# Altium integrated library ISSI SRAM Asynchronous SRAM Lower Power.IntLib: 204 symbols (part 2 of 9)
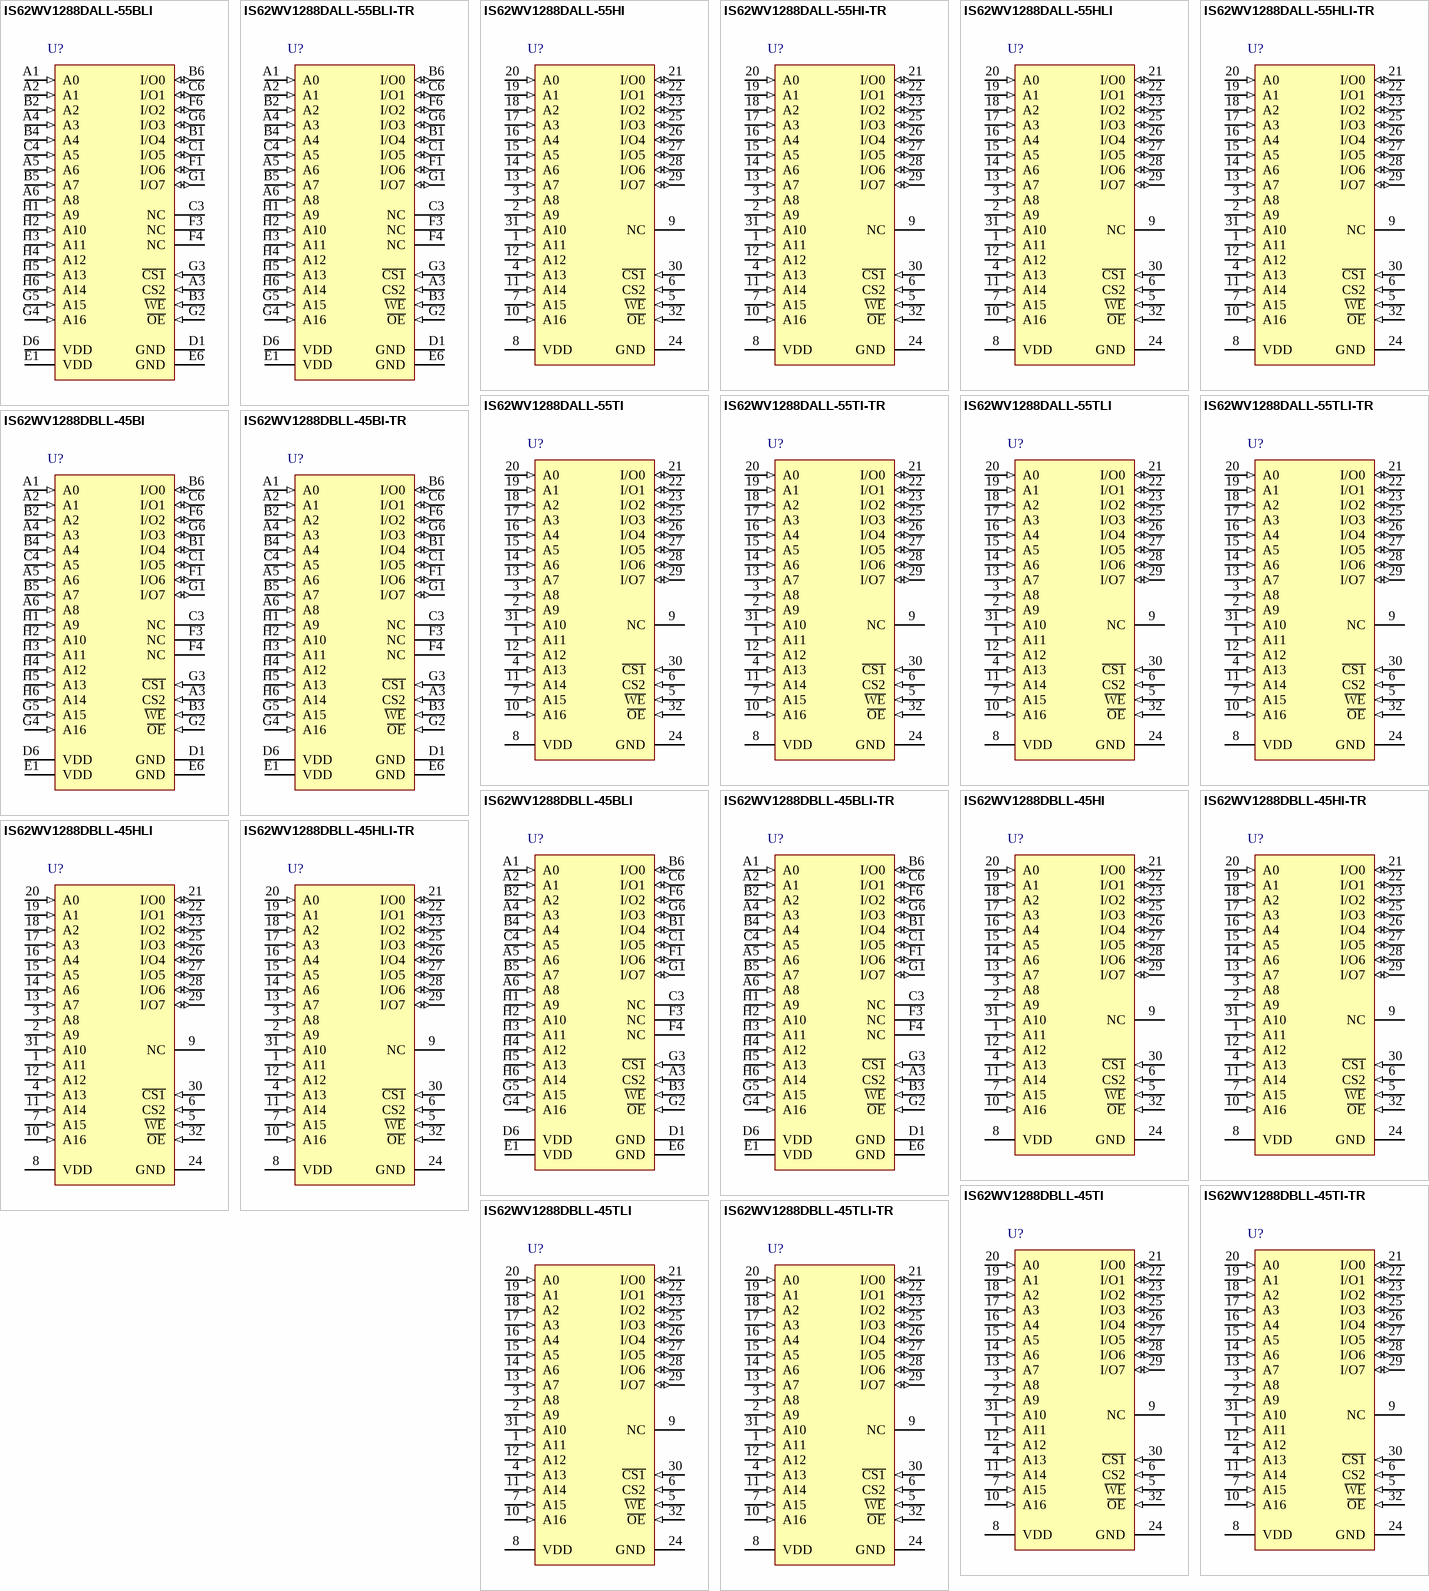
[diagram p12: symbols IS62WV1288DALL-55BLI to IS62WV1288DBLL-45TLI-TR]

## IS62WV1288DALL-55HI-TR
designator U?
1 M Low Voltage, Ultra Low Power CMOS SRAM, 128 K x 8, -40 to 85 degC, 32-Pin SOP (TSOP-1-32); Manufacturer: Integrated Silicon Solution Inc (ISSI); PartNumber: IS62WV1288DALL-55HI-TR; Density: 1M; Organization: 128K x 8; Packing: Tape & Reel; Speed (ns): 55; DatasheetVersion: Rev. B; PackageVersion: Rev. E, 06/2006; PackageReference: TSOP-1-32; PackageDescription: 32-Pin TSOP-1, Body 8 x 20 mm, Pitch 0.50 mm; Mounting Technology: Surface Mount; ComponentLink1Description: Manufacturer URL; ComponentLink1URL: http://www.issi.com/US/index.shtml; ComponentLink2Description: Datasheet; ComponentLink2URL: http://www.issi.com/WW/pdf/62-65WV1288DALL-BLL.pdf; ComponentLink3Description: Package Specification; ComponentLink3URL: http://www.issi.com/WW/pdf/61-64C1024AL.pdf
footprint ISSI-TSOP-1-32-8000x20000DE_N (SOP, 32-Leads, Body 18.5x8.2mm, Pitch 0.5mm, IPC Medium Density)
pins: 1 A11 (in) "Address Input", 2 A9 (in) "Address Input", 3 A8 (in) "Address Input", 4 A13 (in) "Address Input", 5 ~{WE} (in) "Write Enable Input", 6 CS2 (in) "Chip Enable 2 Input", 7 A15 (in) "Address Input", 8 VDD (power) "Power", 9 NC "No Connection", 10 A16 (in) "Address Input", 11 A14 (in) "Address Input", 12 A12 (in) "Address Input", 13 A7 (in) "Address Input", 14 A6 (in) "Address Input", 15 A5 (in) "Address Input", 16 A4 (in) "Address Input", 17 A3 (in) "Address Input", 18 A2 (in) "Address Input", 19 A1 (in) "Address Input", 20 A0 (in) "Address Input", 21 I/O0 (io) "Input/Output", 22 I/O1 (io) "Input/Output", 23 I/O2 (io) "Input/Output", 24 GND (power) "Ground", 25 I/O3 (io) "Input/Output", 26 I/O4 (io) "Input/Output", 27 I/O5 (io) "Input/Output", 28 I/O6 (io) "Input/Output", 29 I/O7 (io) "Input/Output", 30 ~{CS1} (in) "Chip Enable 1 Input", 31 A10 (in) "Address Input", 32 ~{OE} (in) "Output Enable Input"

## IS62WV1288DALL-55HLI
designator U?
1 M Low Voltage, Ultra Low Power CMOS SRAM, 128 K x 8, -40 to 85 degC, 32-Pin SOP (TSOP-1-32), Pb-Free; Manufacturer: Integrated Silicon Solution Inc (ISSI); PartNumber: IS62WV1288DALL-55HLI; Density: 1M; Organization: 128K x 8; Packing: Tray / Tube; Speed (ns): 55; DatasheetVersion: Rev. B; PackageVersion: Rev. E, 06/2006; PackageReference: TSOP-1-32; PackageDescription: 32-Pin TSOP-1, Body 8 x 20 mm, Pitch 0.50 mm; RoHS: Pb-Free; Mounting Technology: Surface Mount; ComponentLink1Description: Manufacturer URL; ComponentLink1URL: http://www.issi.com/US/index.shtml; ComponentLink2Description: Datasheet; ComponentLink2URL: http://www.issi.com/WW/pdf/62-65WV1288DALL-BLL.pdf; ComponentLink3Description: Package Specification; ComponentLink3URL: http://www.issi.com/WW/pdf/61-64C1024AL.pdf
footprint ISSI-TSOP-1-32-8000x20000DE_N (SOP, 32-Leads, Body 18.5x8.2mm, Pitch 0.5mm, IPC Medium Density)
pins: 1 A11 (in) "Address Input", 2 A9 (in) "Address Input", 3 A8 (in) "Address Input", 4 A13 (in) "Address Input", 5 ~{WE} (in) "Write Enable Input", 6 CS2 (in) "Chip Enable 2 Input", 7 A15 (in) "Address Input", 8 VDD (power) "Power", 9 NC "No Connection", 10 A16 (in) "Address Input", 11 A14 (in) "Address Input", 12 A12 (in) "Address Input", 13 A7 (in) "Address Input", 14 A6 (in) "Address Input", 15 A5 (in) "Address Input", 16 A4 (in) "Address Input", 17 A3 (in) "Address Input", 18 A2 (in) "Address Input", 19 A1 (in) "Address Input", 20 A0 (in) "Address Input", 21 I/O0 (io) "Input/Output", 22 I/O1 (io) "Input/Output", 23 I/O2 (io) "Input/Output", 24 GND (power) "Ground", 25 I/O3 (io) "Input/Output", 26 I/O4 (io) "Input/Output", 27 I/O5 (io) "Input/Output", 28 I/O6 (io) "Input/Output", 29 I/O7 (io) "Input/Output", 30 ~{CS1} (in) "Chip Enable 1 Input", 31 A10 (in) "Address Input", 32 ~{OE} (in) "Output Enable Input"

## IS62WV1288DALL-55HLI-TR
designator U?
1 M Low Voltage, Ultra Low Power CMOS SRAM, 128 K x 8, -40 to 85 degC, 32-Pin SOP (TSOP-1-32), Pb-Free; Manufacturer: Integrated Silicon Solution Inc (ISSI); PartNumber: IS62WV1288DALL-55HLI-TR; Density: 1M; Organization: 128K x 8; Packing: Tape & Reel; Speed (ns): 55; DatasheetVersion: Rev. B; PackageVersion: Rev. E, 06/2006; PackageReference: TSOP-1-32; PackageDescription: 32-Pin TSOP-1, Body 8 x 20 mm, Pitch 0.50 mm; RoHS: Pb-Free; Mounting Technology: Surface Mount; ComponentLink1Description: Manufacturer URL; ComponentLink1URL: http://www.issi.com/US/index.shtml; ComponentLink2Description: Datasheet; ComponentLink2URL: http://www.issi.com/WW/pdf/62-65WV1288DALL-BLL.pdf; ComponentLink3Description: Package Specification; ComponentLink3URL: http://www.issi.com/WW/pdf/61-64C1024AL.pdf
footprint ISSI-TSOP-1-32-8000x20000DE_N (SOP, 32-Leads, Body 18.5x8.2mm, Pitch 0.5mm, IPC Medium Density)
pins: 1 A11 (in) "Address Input", 2 A9 (in) "Address Input", 3 A8 (in) "Address Input", 4 A13 (in) "Address Input", 5 ~{WE} (in) "Write Enable Input", 6 CS2 (in) "Chip Enable 2 Input", 7 A15 (in) "Address Input", 8 VDD (power) "Power", 9 NC "No Connection", 10 A16 (in) "Address Input", 11 A14 (in) "Address Input", 12 A12 (in) "Address Input", 13 A7 (in) "Address Input", 14 A6 (in) "Address Input", 15 A5 (in) "Address Input", 16 A4 (in) "Address Input", 17 A3 (in) "Address Input", 18 A2 (in) "Address Input", 19 A1 (in) "Address Input", 20 A0 (in) "Address Input", 21 I/O0 (io) "Input/Output", 22 I/O1 (io) "Input/Output", 23 I/O2 (io) "Input/Output", 24 GND (power) "Ground", 25 I/O3 (io) "Input/Output", 26 I/O4 (io) "Input/Output", 27 I/O5 (io) "Input/Output", 28 I/O6 (io) "Input/Output", 29 I/O7 (io) "Input/Output", 30 ~{CS1} (in) "Chip Enable 1 Input", 31 A10 (in) "Address Input", 32 ~{OE} (in) "Output Enable Input"

## IS62WV1288DALL-55TI
designator U?
1 M Low Voltage, Ultra Low Power CMOS SRAM, 128 K x 8, -40 to 85 degC, 32-Pin SOP (TSOP-1-32); Manufacturer: Integrated Silicon Solution Inc (ISSI); PartNumber: IS62WV1288DALL-55TI; Density: 1M; Organization: 128K x 8; Packing: Tray / Tube; Speed (ns): 55; DatasheetVersion: Rev. B; PackageVersion: Rev. B, 04/2003; PackageReference: TSOP-1-32; PackageDescription: 32-Pin 8.00 x 13.4 mm TSOP-1, Pitch 0.5 mm; Mounting Technology: Surface Mount; ComponentLink1Description: Manufacturer URL; ComponentLink1URL: http://www.issi.com/US/index.shtml; ComponentLink2Description: Datasheet; ComponentLink2URL: http://www.issi.com/WW/pdf/62-65WV1288DALL-BLL.pdf; ComponentLink3Description: Package Specification; ComponentLink3URL: http://www.issi.com/WW/pdf/61-64C1024AL.pdf
footprint ISSI-TSOP-1-32-8000x13400DE_N (SOP, 32-Leads, Body 11.9x8.1mm, Pitch 0.5mm, IPC Medium Density)
pins: 1 A11 (in) "Address Input", 2 A9 (in) "Address Input", 3 A8 (in) "Address Input", 4 A13 (in) "Address Input", 5 ~{WE} (in) "Write Enable Input", 6 CS2 (in) "Chip Enable 2 Input", 7 A15 (in) "Address Input", 8 VDD (power) "Power", 9 NC "No Connection", 10 A16 (in) "Address Input", 11 A14 (in) "Address Input", 12 A12 (in) "Address Input", 13 A7 (in) "Address Input", 14 A6 (in) "Address Input", 15 A5 (in) "Address Input", 16 A4 (in) "Address Input", 17 A3 (in) "Address Input", 18 A2 (in) "Address Input", 19 A1 (in) "Address Input", 20 A0 (in) "Address Input", 21 I/O0 (io) "Input/Output", 22 I/O1 (io) "Input/Output", 23 I/O2 (io) "Input/Output", 24 GND (power) "Ground", 25 I/O3 (io) "Input/Output", 26 I/O4 (io) "Input/Output", 27 I/O5 (io) "Input/Output", 28 I/O6 (io) "Input/Output", 29 I/O7 (io) "Input/Output", 30 ~{CS1} (in) "Chip Enable 1 Input", 31 A10 (in) "Address Input", 32 ~{OE} (in) "Output Enable Input"

## IS62WV1288DALL-55TI-TR
designator U?
1 M Low Voltage, Ultra Low Power CMOS SRAM, 128 K x 8, -40 to 85 degC, 32-Pin SOP (TSOP-1-32); Manufacturer: Integrated Silicon Solution Inc (ISSI); PartNumber: IS62WV1288DALL-55TI-TR; Density: 1M; Organization: 128K x 8; Packing: Tape & Reel; Speed (ns): 55; DatasheetVersion: Rev. B; PackageVersion: Rev. B, 04/2003; PackageReference: TSOP-1-32; PackageDescription: 32-Pin 8.00 x 13.4 mm TSOP-1, Pitch 0.5 mm; Mounting Technology: Surface Mount; ComponentLink1Description: Manufacturer URL; ComponentLink1URL: http://www.issi.com/US/index.shtml; ComponentLink2Description: Datasheet; ComponentLink2URL: http://www.issi.com/WW/pdf/62-65WV1288DALL-BLL.pdf; ComponentLink3Description: Package Specification; ComponentLink3URL: http://www.issi.com/WW/pdf/61-64C1024AL.pdf
footprint ISSI-TSOP-1-32-8000x13400DE_N (SOP, 32-Leads, Body 11.9x8.1mm, Pitch 0.5mm, IPC Medium Density)
pins: 1 A11 (in) "Address Input", 2 A9 (in) "Address Input", 3 A8 (in) "Address Input", 4 A13 (in) "Address Input", 5 ~{WE} (in) "Write Enable Input", 6 CS2 (in) "Chip Enable 2 Input", 7 A15 (in) "Address Input", 8 VDD (power) "Power", 9 NC "No Connection", 10 A16 (in) "Address Input", 11 A14 (in) "Address Input", 12 A12 (in) "Address Input", 13 A7 (in) "Address Input", 14 A6 (in) "Address Input", 15 A5 (in) "Address Input", 16 A4 (in) "Address Input", 17 A3 (in) "Address Input", 18 A2 (in) "Address Input", 19 A1 (in) "Address Input", 20 A0 (in) "Address Input", 21 I/O0 (io) "Input/Output", 22 I/O1 (io) "Input/Output", 23 I/O2 (io) "Input/Output", 24 GND (power) "Ground", 25 I/O3 (io) "Input/Output", 26 I/O4 (io) "Input/Output", 27 I/O5 (io) "Input/Output", 28 I/O6 (io) "Input/Output", 29 I/O7 (io) "Input/Output", 30 ~{CS1} (in) "Chip Enable 1 Input", 31 A10 (in) "Address Input", 32 ~{OE} (in) "Output Enable Input"

## IS62WV1288DALL-55TLI
designator U?
1 M Low Voltage, Ultra Low Power CMOS SRAM, 128 K x 8, -40 to 85 degC, 32-Pin SOP (TSOP-1-32), Pb-Free; Manufacturer: Integrated Silicon Solution Inc (ISSI); PartNumber: IS62WV1288DALL-55TLI; Density: 1M; Organization: 128K x 8; Packing: Tray / Tube; Speed (ns): 55; DatasheetVersion: Rev. B; PackageVersion: Rev. B, 04/2003; PackageReference: TSOP-1-32; PackageDescription: 32-Pin 8.00 x 13.4 mm TSOP-1, Pitch 0.5 mm; RoHS: Pb-Free; Mounting Technology: Surface Mount; ComponentLink1Description: Manufacturer URL; ComponentLink1URL: http://www.issi.com/US/index.shtml; ComponentLink2Description: Datasheet; ComponentLink2URL: http://www.issi.com/WW/pdf/62-65WV1288DALL-BLL.pdf; ComponentLink3Description: Package Specification; ComponentLink3URL: http://www.issi.com/WW/pdf/61-64C1024AL.pdf
footprint ISSI-TSOP-1-32-8000x13400DE_N (SOP, 32-Leads, Body 11.9x8.1mm, Pitch 0.5mm, IPC Medium Density)
pins: 1 A11 (in) "Address Input", 2 A9 (in) "Address Input", 3 A8 (in) "Address Input", 4 A13 (in) "Address Input", 5 ~{WE} (in) "Write Enable Input", 6 CS2 (in) "Chip Enable 2 Input", 7 A15 (in) "Address Input", 8 VDD (power) "Power", 9 NC "No Connection", 10 A16 (in) "Address Input", 11 A14 (in) "Address Input", 12 A12 (in) "Address Input", 13 A7 (in) "Address Input", 14 A6 (in) "Address Input", 15 A5 (in) "Address Input", 16 A4 (in) "Address Input", 17 A3 (in) "Address Input", 18 A2 (in) "Address Input", 19 A1 (in) "Address Input", 20 A0 (in) "Address Input", 21 I/O0 (io) "Input/Output", 22 I/O1 (io) "Input/Output", 23 I/O2 (io) "Input/Output", 24 GND (power) "Ground", 25 I/O3 (io) "Input/Output", 26 I/O4 (io) "Input/Output", 27 I/O5 (io) "Input/Output", 28 I/O6 (io) "Input/Output", 29 I/O7 (io) "Input/Output", 30 ~{CS1} (in) "Chip Enable 1 Input", 31 A10 (in) "Address Input", 32 ~{OE} (in) "Output Enable Input"

## IS62WV1288DALL-55TLI-TR
designator U?
1 M Low Voltage, Ultra Low Power CMOS SRAM, 128 K x 8, -40 to 85 degC, 32-Pin SOP (TSOP-1-32), Pb-Free; Manufacturer: Integrated Silicon Solution Inc (ISSI); PartNumber: IS62WV1288DALL-55TLI-TR; Density: 1M; Organization: 128K x 8; Packing: Tape & Reel; Speed (ns): 55; DatasheetVersion: Rev. B; PackageVersion: Rev. B, 04/2003; PackageReference: TSOP-1-32; PackageDescription: 32-Pin 8.00 x 13.4 mm TSOP-1, Pitch 0.5 mm; RoHS: Pb-Free; Mounting Technology: Surface Mount; ComponentLink1Description: Manufacturer URL; ComponentLink1URL: http://www.issi.com/US/index.shtml; ComponentLink2Description: Datasheet; ComponentLink2URL: http://www.issi.com/WW/pdf/62-65WV1288DALL-BLL.pdf; ComponentLink3Description: Package Specification; ComponentLink3URL: http://www.issi.com/WW/pdf/61-64C1024AL.pdf
footprint ISSI-TSOP-1-32-8000x13400DE_N (SOP, 32-Leads, Body 11.9x8.1mm, Pitch 0.5mm, IPC Medium Density)
pins: 1 A11 (in) "Address Input", 2 A9 (in) "Address Input", 3 A8 (in) "Address Input", 4 A13 (in) "Address Input", 5 ~{WE} (in) "Write Enable Input", 6 CS2 (in) "Chip Enable 2 Input", 7 A15 (in) "Address Input", 8 VDD (power) "Power", 9 NC "No Connection", 10 A16 (in) "Address Input", 11 A14 (in) "Address Input", 12 A12 (in) "Address Input", 13 A7 (in) "Address Input", 14 A6 (in) "Address Input", 15 A5 (in) "Address Input", 16 A4 (in) "Address Input", 17 A3 (in) "Address Input", 18 A2 (in) "Address Input", 19 A1 (in) "Address Input", 20 A0 (in) "Address Input", 21 I/O0 (io) "Input/Output", 22 I/O1 (io) "Input/Output", 23 I/O2 (io) "Input/Output", 24 GND (power) "Ground", 25 I/O3 (io) "Input/Output", 26 I/O4 (io) "Input/Output", 27 I/O5 (io) "Input/Output", 28 I/O6 (io) "Input/Output", 29 I/O7 (io) "Input/Output", 30 ~{CS1} (in) "Chip Enable 1 Input", 31 A10 (in) "Address Input", 32 ~{OE} (in) "Output Enable Input"

## IS62WV1288DBLL-45BI
designator U?
1 M Low Voltage, Ultra Low Power CMOS SRAM, 128 K x 8, -40 to 85 degC, 36-Pin BGA (TF-BGA-36); Manufacturer: Integrated Silicon Solution Inc (ISSI); PartNumber: IS62WV1288DBLL-45BI; Density: 1M; Organization: 128K x 8; Packing: Tray / Tube; Speed (ns): 45; DatasheetVersion: Rev. B; PackageVersion: Rev. E, 08/2008; PackageReference: TF-BGA-36; PackageDescription: 36-Pin 6 x 8 mm TF-BGA, Pitch 0.75 mm; Mounting Technology: Surface Mount; Code_JEDEC: MO-207; ComponentLink1Description: Manufacturer URL; ComponentLink1URL: http://www.issi.com/US/index.shtml; ComponentLink2Description: Datasheet; ComponentLink2URL: http://www.issi.com/WW/pdf/62-65WV1288DALL-BLL.pdf; ComponentLink3Description: Package Specification; ComponentLink3URL: http://www.issi.com/WW/pdf/62-65WV2568DALL_BLL.pdf
footprint ISSI-TF-BGA-36-6000x8000DE (BGA, 36-Balls, Body 8x6mm, Pitch 0.75mm)
pins: A1 A0 (in) "Address Inputs", A2 A1 (in) "Address Inputs", A3 CS2 (in) "Chip Enable 2 Input", A4 A3 (in) "Address Inputs", A5 A6 (in) "Address Inputs", A6 A8 (in) "Address Inputs", B1 I/O4 (io) "Bidirectional Ports", B2 A2 (in) "Address Inputs", B3 ~{WE} (in) "Write Enable Input", B4 A4 (in) "Address Inputs", B5 A7 (in) "Address Inputs", B6 I/O0 (io) "Bidirectional Ports", C1 I/O5 (io) "Bidirectional Ports", C3 NC "No Connection", C4 A5 (in) "Address Inputs", C6 I/O1 (io) "Bidirectional Ports", D1 GND (power) "Ground", D6 VDD (power) "Power", E1 VDD (power) "Power", E6 GND (power) "Ground", F1 I/O6 (io) "Bidirectional Ports", F3 NC "No Connection", F4 NC "No Connection", F6 I/O2 (io) "Bidirectional Ports", G1 I/O7 (io) "Bidirectional Ports", G2 ~{OE} (in) "Output Enable Input", G3 ~{CS1} (in) "Chip Enable 1 Input", G4 A16 (in) "Address Inputs", G5 A15 (in) "Address Inputs", G6 I/O3 (io) "Bidirectional Ports", H1 A9 (in) "Address Inputs", H2 A10 (in) "Address Inputs", H3 A11 (in) "Address Inputs", H4 A12 (in) "Address Inputs", H5 A13 (in) "Address Inputs", H6 A14 (in) "Address Inputs"

## IS62WV1288DBLL-45BI-TR
designator U?
1 M Low Voltage, Ultra Low Power CMOS SRAM, 128 K x 8, -40 to 85 degC, 36-Pin BGA (TF-BGA-36); Manufacturer: Integrated Silicon Solution Inc (ISSI); PartNumber: IS62WV1288DBLL-45BI-TR; Density: 1M; Organization: 128K x 8; Packing: Tape & Reel; Speed (ns): 45; DatasheetVersion: Rev. B; PackageVersion: Rev. E, 08/2008; PackageReference: TF-BGA-36; PackageDescription: 36-Pin 6 x 8 mm TF-BGA, Pitch 0.75 mm; Mounting Technology: Surface Mount; Code_JEDEC: MO-207; ComponentLink1Description: Manufacturer URL; ComponentLink1URL: http://www.issi.com/US/index.shtml; ComponentLink2Description: Datasheet; ComponentLink2URL: http://www.issi.com/WW/pdf/62-65WV1288DALL-BLL.pdf; ComponentLink3Description: Package Specification; ComponentLink3URL: http://www.issi.com/WW/pdf/62-65WV2568DALL_BLL.pdf
footprint ISSI-TF-BGA-36-6000x8000DE (BGA, 36-Balls, Body 8x6mm, Pitch 0.75mm)
pins: A1 A0 (in) "Address Inputs", A2 A1 (in) "Address Inputs", A3 CS2 (in) "Chip Enable 2 Input", A4 A3 (in) "Address Inputs", A5 A6 (in) "Address Inputs", A6 A8 (in) "Address Inputs", B1 I/O4 (io) "Bidirectional Ports", B2 A2 (in) "Address Inputs", B3 ~{WE} (in) "Write Enable Input", B4 A4 (in) "Address Inputs", B5 A7 (in) "Address Inputs", B6 I/O0 (io) "Bidirectional Ports", C1 I/O5 (io) "Bidirectional Ports", C3 NC "No Connection", C4 A5 (in) "Address Inputs", C6 I/O1 (io) "Bidirectional Ports", D1 GND (power) "Ground", D6 VDD (power) "Power", E1 VDD (power) "Power", E6 GND (power) "Ground", F1 I/O6 (io) "Bidirectional Ports", F3 NC "No Connection", F4 NC "No Connection", F6 I/O2 (io) "Bidirectional Ports", G1 I/O7 (io) "Bidirectional Ports", G2 ~{OE} (in) "Output Enable Input", G3 ~{CS1} (in) "Chip Enable 1 Input", G4 A16 (in) "Address Inputs", G5 A15 (in) "Address Inputs", G6 I/O3 (io) "Bidirectional Ports", H1 A9 (in) "Address Inputs", H2 A10 (in) "Address Inputs", H3 A11 (in) "Address Inputs", H4 A12 (in) "Address Inputs", H5 A13 (in) "Address Inputs", H6 A14 (in) "Address Inputs"

## IS62WV1288DBLL-45BLI
designator U?
1 M Low Voltage, Ultra Low Power CMOS SRAM, 128 K x 8, -40 to 85 degC, 36-Pin BGA (TF-BGA-36), Pb-Free; Manufacturer: Integrated Silicon Solution Inc (ISSI); PartNumber: IS62WV1288DBLL-45BLI; Density: 1M; Organization: 128K x 8; Packing: Tray / Tube; Speed (ns): 45; DatasheetVersion: Rev. B; PackageVersion: Rev. E, 08/2008; PackageReference: TF-BGA-36; PackageDescription: 36-Pin 6 x 8 mm TF-BGA, Pitch 0.75 mm; RoHS: Pb-Free; Mounting Technology: Surface Mount; Code_JEDEC: MO-207; ComponentLink1Description: Manufacturer URL; ComponentLink1URL: http://www.issi.com/US/index.shtml; ComponentLink2Description: Datasheet; ComponentLink2URL: http://www.issi.com/WW/pdf/62-65WV1288DALL-BLL.pdf; ComponentLink3Description: Package Specification; ComponentLink3URL: http://www.issi.com/WW/pdf/62-65WV2568DALL_BLL.pdf
footprint ISSI-TF-BGA-36-6000x8000DE (BGA, 36-Balls, Body 8x6mm, Pitch 0.75mm)
pins: A1 A0 (in) "Address Inputs", A2 A1 (in) "Address Inputs", A3 CS2 (in) "Chip Enable 2 Input", A4 A3 (in) "Address Inputs", A5 A6 (in) "Address Inputs", A6 A8 (in) "Address Inputs", B1 I/O4 (io) "Bidirectional Ports", B2 A2 (in) "Address Inputs", B3 ~{WE} (in) "Write Enable Input", B4 A4 (in) "Address Inputs", B5 A7 (in) "Address Inputs", B6 I/O0 (io) "Bidirectional Ports", C1 I/O5 (io) "Bidirectional Ports", C3 NC "No Connection", C4 A5 (in) "Address Inputs", C6 I/O1 (io) "Bidirectional Ports", D1 GND (power) "Ground", D6 VDD (power) "Power", E1 VDD (power) "Power", E6 GND (power) "Ground", F1 I/O6 (io) "Bidirectional Ports", F3 NC "No Connection", F4 NC "No Connection", F6 I/O2 (io) "Bidirectional Ports", G1 I/O7 (io) "Bidirectional Ports", G2 ~{OE} (in) "Output Enable Input", G3 ~{CS1} (in) "Chip Enable 1 Input", G4 A16 (in) "Address Inputs", G5 A15 (in) "Address Inputs", G6 I/O3 (io) "Bidirectional Ports", H1 A9 (in) "Address Inputs", H2 A10 (in) "Address Inputs", H3 A11 (in) "Address Inputs", H4 A12 (in) "Address Inputs", H5 A13 (in) "Address Inputs", H6 A14 (in) "Address Inputs"

## IS62WV1288DBLL-45BLI-TR
designator U?
1 M Low Voltage, Ultra Low Power CMOS SRAM, 128 K x 8, -40 to 85 degC, 36-Pin BGA (TF-BGA-36), Pb-Free; Manufacturer: Integrated Silicon Solution Inc (ISSI); PartNumber: IS62WV1288DBLL-45BLI-TR; Density: 1M; Organization: 128K x 8; Packing: Tape & Reel; Speed (ns): 45; DatasheetVersion: Rev. B; PackageVersion: Rev. E, 08/2008; PackageReference: TF-BGA-36; PackageDescription: 36-Pin 6 x 8 mm TF-BGA, Pitch 0.75 mm; RoHS: Pb-Free; Mounting Technology: Surface Mount; Code_JEDEC: MO-207; ComponentLink1Description: Manufacturer URL; ComponentLink1URL: http://www.issi.com/US/index.shtml; ComponentLink2Description: Datasheet; ComponentLink2URL: http://www.issi.com/WW/pdf/62-65WV1288DALL-BLL.pdf; ComponentLink3Description: Package Specification; ComponentLink3URL: http://www.issi.com/WW/pdf/62-65WV2568DALL_BLL.pdf
footprint ISSI-TF-BGA-36-6000x8000DE (BGA, 36-Balls, Body 8x6mm, Pitch 0.75mm)
pins: A1 A0 (in) "Address Inputs", A2 A1 (in) "Address Inputs", A3 CS2 (in) "Chip Enable 2 Input", A4 A3 (in) "Address Inputs", A5 A6 (in) "Address Inputs", A6 A8 (in) "Address Inputs", B1 I/O4 (io) "Bidirectional Ports", B2 A2 (in) "Address Inputs", B3 ~{WE} (in) "Write Enable Input", B4 A4 (in) "Address Inputs", B5 A7 (in) "Address Inputs", B6 I/O0 (io) "Bidirectional Ports", C1 I/O5 (io) "Bidirectional Ports", C3 NC "No Connection", C4 A5 (in) "Address Inputs", C6 I/O1 (io) "Bidirectional Ports", D1 GND (power) "Ground", D6 VDD (power) "Power", E1 VDD (power) "Power", E6 GND (power) "Ground", F1 I/O6 (io) "Bidirectional Ports", F3 NC "No Connection", F4 NC "No Connection", F6 I/O2 (io) "Bidirectional Ports", G1 I/O7 (io) "Bidirectional Ports", G2 ~{OE} (in) "Output Enable Input", G3 ~{CS1} (in) "Chip Enable 1 Input", G4 A16 (in) "Address Inputs", G5 A15 (in) "Address Inputs", G6 I/O3 (io) "Bidirectional Ports", H1 A9 (in) "Address Inputs", H2 A10 (in) "Address Inputs", H3 A11 (in) "Address Inputs", H4 A12 (in) "Address Inputs", H5 A13 (in) "Address Inputs", H6 A14 (in) "Address Inputs"

## IS62WV1288DBLL-45HI
designator U?
1 M Low Voltage, Ultra Low Power CMOS SRAM, 128 K x 8, -40 to 85 degC, 32-Pin SOP (TSOP-1-32); Manufacturer: Integrated Silicon Solution Inc (ISSI); PartNumber: IS62WV1288DBLL-45HI; Density: 1M; Organization: 128K x 8; Packing: Tray / Tube; Speed (ns): 45; DatasheetVersion: Rev. B; PackageVersion: Rev. E, 06/2006; PackageReference: TSOP-1-32; PackageDescription: 32-Pin TSOP-1, Body 8 x 20 mm, Pitch 0.50 mm; Mounting Technology: Surface Mount; ComponentLink1Description: Manufacturer URL; ComponentLink1URL: http://www.issi.com/US/index.shtml; ComponentLink2Description: Datasheet; ComponentLink2URL: http://www.issi.com/WW/pdf/62-65WV1288DALL-BLL.pdf; ComponentLink3Description: Package Specification; ComponentLink3URL: http://www.issi.com/WW/pdf/61-64C1024AL.pdf
footprint ISSI-TSOP-1-32-8000x20000DE_N (SOP, 32-Leads, Body 18.5x8.2mm, Pitch 0.5mm, IPC Medium Density)
pins: 1 A11 (in) "Address Input", 2 A9 (in) "Address Input", 3 A8 (in) "Address Input", 4 A13 (in) "Address Input", 5 ~{WE} (in) "Write Enable Input", 6 CS2 (in) "Chip Enable 2 Input", 7 A15 (in) "Address Input", 8 VDD (power) "Power", 9 NC "No Connection", 10 A16 (in) "Address Input", 11 A14 (in) "Address Input", 12 A12 (in) "Address Input", 13 A7 (in) "Address Input", 14 A6 (in) "Address Input", 15 A5 (in) "Address Input", 16 A4 (in) "Address Input", 17 A3 (in) "Address Input", 18 A2 (in) "Address Input", 19 A1 (in) "Address Input", 20 A0 (in) "Address Input", 21 I/O0 (io) "Input/Output", 22 I/O1 (io) "Input/Output", 23 I/O2 (io) "Input/Output", 24 GND (power) "Ground", 25 I/O3 (io) "Input/Output", 26 I/O4 (io) "Input/Output", 27 I/O5 (io) "Input/Output", 28 I/O6 (io) "Input/Output", 29 I/O7 (io) "Input/Output", 30 ~{CS1} (in) "Chip Enable 1 Input", 31 A10 (in) "Address Input", 32 ~{OE} (in) "Output Enable Input"

## IS62WV1288DBLL-45HI-TR
designator U?
1 M Low Voltage, Ultra Low Power CMOS SRAM, 128 K x 8, -40 to 85 degC, 32-Pin SOP (TSOP-1-32); Manufacturer: Integrated Silicon Solution Inc (ISSI); PartNumber: IS62WV1288DBLL-45HI-TR; Density: 1M; Organization: 128K x 8; Packing: Tape & Reel; Speed (ns): 45; DatasheetVersion: Rev. B; PackageVersion: Rev. B, 04/2003; PackageReference: TSOP-1-32; PackageDescription: 32-Pin 8.00 x 13.4 mm TSOP-1, Pitch 0.5 mm; Mounting Technology: Surface Mount; ComponentLink1Description: Manufacturer URL; ComponentLink1URL: http://www.issi.com/US/index.shtml; ComponentLink2Description: Datasheet; ComponentLink2URL: http://www.issi.com/WW/pdf/62-65WV1288DALL-BLL.pdf; ComponentLink3Description: Package Specification; ComponentLink3URL: http://www.issi.com/WW/pdf/61-64C1024AL.pdf
footprint ISSI-TSOP-1-32-8000x13400DE_N (SOP, 32-Leads, Body 11.9x8.1mm, Pitch 0.5mm, IPC Medium Density)
pins: 1 A11 (in) "Address Input", 2 A9 (in) "Address Input", 3 A8 (in) "Address Input", 4 A13 (in) "Address Input", 5 ~{WE} (in) "Write Enable Input", 6 CS2 (in) "Chip Enable 2 Input", 7 A15 (in) "Address Input", 8 VDD (power) "Power", 9 NC "No Connection", 10 A16 (in) "Address Input", 11 A14 (in) "Address Input", 12 A12 (in) "Address Input", 13 A7 (in) "Address Input", 14 A6 (in) "Address Input", 15 A5 (in) "Address Input", 16 A4 (in) "Address Input", 17 A3 (in) "Address Input", 18 A2 (in) "Address Input", 19 A1 (in) "Address Input", 20 A0 (in) "Address Input", 21 I/O0 (io) "Input/Output", 22 I/O1 (io) "Input/Output", 23 I/O2 (io) "Input/Output", 24 GND (power) "Ground", 25 I/O3 (io) "Input/Output", 26 I/O4 (io) "Input/Output", 27 I/O5 (io) "Input/Output", 28 I/O6 (io) "Input/Output", 29 I/O7 (io) "Input/Output", 30 ~{CS1} (in) "Chip Enable 1 Input", 31 A10 (in) "Address Input", 32 ~{OE} (in) "Output Enable Input"

## IS62WV1288DBLL-45HLI
designator U?
1 M Low Voltage, Ultra Low Power CMOS SRAM, 128 K x 8, -40 to 85 degC, 32-Pin SOP (TSOP-1-32), Pb-Free; Manufacturer: Integrated Silicon Solution Inc (ISSI); PartNumber: IS62WV1288DBLL-45HLI; Density: 1M; Organization: 128K x 8; Packing: Tray / Tube; Speed (ns): 45; DatasheetVersion: Rev. B; PackageVersion: Rev. E, 06/2006; PackageReference: TSOP-1-32; PackageDescription: 32-Pin TSOP-1, Body 8 x 20 mm, Pitch 0.50 mm; Supplier 1: Digi-Key; Supplier Part Number 1: 706-1120-ND; Supplier 2: Farnell; Supplier Part Number 2: 2253833; Supplier 3: Newark; Supplier Part Number 3: 53W9311; Supplier 4: Mouser; Supplier Part Number 4: 870-62WV1288DBL45HLI; RoHS: Pb-Free; Mounting Technology: Surface Mount; ComponentLink1Description: Manufacturer URL; ComponentLink1URL: http://www.issi.com/US/index.shtml; ComponentLink2Description: Datasheet; ComponentLink2URL: http://www.issi.com/WW/pdf/62-65WV1288DALL-BLL.pdf; ComponentLink3Description: Package Specification; ComponentLink3URL: http://www.issi.com/WW/pdf/61-64C1024AL.pdf
footprint ISSI-TSOP-1-32-8000x20000DE_N (SOP, 32-Leads, Body 18.5x8.2mm, Pitch 0.5mm, IPC Medium Density)
pins: 1 A11 (in) "Address Input", 2 A9 (in) "Address Input", 3 A8 (in) "Address Input", 4 A13 (in) "Address Input", 5 ~{WE} (in) "Write Enable Input", 6 CS2 (in) "Chip Enable 2 Input", 7 A15 (in) "Address Input", 8 VDD (power) "Power", 9 NC "No Connection", 10 A16 (in) "Address Input", 11 A14 (in) "Address Input", 12 A12 (in) "Address Input", 13 A7 (in) "Address Input", 14 A6 (in) "Address Input", 15 A5 (in) "Address Input", 16 A4 (in) "Address Input", 17 A3 (in) "Address Input", 18 A2 (in) "Address Input", 19 A1 (in) "Address Input", 20 A0 (in) "Address Input", 21 I/O0 (io) "Input/Output", 22 I/O1 (io) "Input/Output", 23 I/O2 (io) "Input/Output", 24 GND (power) "Ground", 25 I/O3 (io) "Input/Output", 26 I/O4 (io) "Input/Output", 27 I/O5 (io) "Input/Output", 28 I/O6 (io) "Input/Output", 29 I/O7 (io) "Input/Output", 30 ~{CS1} (in) "Chip Enable 1 Input", 31 A10 (in) "Address Input", 32 ~{OE} (in) "Output Enable Input"

## IS62WV1288DBLL-45HLI-TR
designator U?
1 M Low Voltage, Ultra Low Power CMOS SRAM, 128 K x 8, -40 to 85 degC, 32-Pin SOP (TSOP-1-32), Pb-Free; Manufacturer: Integrated Silicon Solution Inc (ISSI); PartNumber: IS62WV1288DBLL-45HLI-TR; Density: 1M; Organization: 128K x 8; Packing: Tape & Reel; Speed (ns): 45; DatasheetVersion: Rev. B; PackageVersion: Rev. B, 04/2003; PackageReference: TSOP-1-32; PackageDescription: 32-Pin 8.00 x 13.4 mm TSOP-1, Pitch 0.5 mm; Supplier 1: Mouser; Supplier Part Number 1: 870-62WV1288DB45HLIT; RoHS: Pb-Free; Mounting Technology: Surface Mount; ComponentLink1Description: Manufacturer URL; ComponentLink1URL: http://www.issi.com/US/index.shtml; ComponentLink2Description: Datasheet; ComponentLink2URL: http://www.issi.com/WW/pdf/62-65WV1288DALL-BLL.pdf; ComponentLink3Description: Package Specification; ComponentLink3URL: http://www.issi.com/WW/pdf/61-64C1024AL.pdf
footprint ISSI-TSOP-1-32-8000x13400DE_N (SOP, 32-Leads, Body 11.9x8.1mm, Pitch 0.5mm, IPC Medium Density)
pins: 1 A11 (in) "Address Input", 2 A9 (in) "Address Input", 3 A8 (in) "Address Input", 4 A13 (in) "Address Input", 5 ~{WE} (in) "Write Enable Input", 6 CS2 (in) "Chip Enable 2 Input", 7 A15 (in) "Address Input", 8 VDD (power) "Power", 9 NC "No Connection", 10 A16 (in) "Address Input", 11 A14 (in) "Address Input", 12 A12 (in) "Address Input", 13 A7 (in) "Address Input", 14 A6 (in) "Address Input", 15 A5 (in) "Address Input", 16 A4 (in) "Address Input", 17 A3 (in) "Address Input", 18 A2 (in) "Address Input", 19 A1 (in) "Address Input", 20 A0 (in) "Address Input", 21 I/O0 (io) "Input/Output", 22 I/O1 (io) "Input/Output", 23 I/O2 (io) "Input/Output", 24 GND (power) "Ground", 25 I/O3 (io) "Input/Output", 26 I/O4 (io) "Input/Output", 27 I/O5 (io) "Input/Output", 28 I/O6 (io) "Input/Output", 29 I/O7 (io) "Input/Output", 30 ~{CS1} (in) "Chip Enable 1 Input", 31 A10 (in) "Address Input", 32 ~{OE} (in) "Output Enable Input"

## IS62WV1288DBLL-45TI
designator U?
1 M Low Voltage, Ultra Low Power CMOS SRAM, 128 K x 8, -40 to 85 degC, 32-Pin SOP (TSOP-1-32); Manufacturer: Integrated Silicon Solution Inc (ISSI); PartNumber: IS62WV1288DBLL-45TI; Density: 1M; Organization: 128K x 8; Packing: Tray / Tube; Speed (ns): 45; DatasheetVersion: Rev. B; PackageVersion: Rev. B, 04/2003; PackageReference: TSOP-1-32; PackageDescription: 32-Pin 8.00 x 13.4 mm TSOP-1, Pitch 0.5 mm; Mounting Technology: Surface Mount; ComponentLink1Description: Manufacturer URL; ComponentLink1URL: http://www.issi.com/US/index.shtml; ComponentLink2Description: Datasheet; ComponentLink2URL: http://www.issi.com/WW/pdf/62-65WV1288DALL-BLL.pdf; ComponentLink3Description: Package Specification; ComponentLink3URL: http://www.issi.com/WW/pdf/61-64C1024AL.pdf
footprint ISSI-TSOP-1-32-8000x13400DE_N (SOP, 32-Leads, Body 11.9x8.1mm, Pitch 0.5mm, IPC Medium Density)
pins: 1 A11 (in) "Address Input", 2 A9 (in) "Address Input", 3 A8 (in) "Address Input", 4 A13 (in) "Address Input", 5 ~{WE} (in) "Write Enable Input", 6 CS2 (in) "Chip Enable 2 Input", 7 A15 (in) "Address Input", 8 VDD (power) "Power", 9 NC "No Connection", 10 A16 (in) "Address Input", 11 A14 (in) "Address Input", 12 A12 (in) "Address Input", 13 A7 (in) "Address Input", 14 A6 (in) "Address Input", 15 A5 (in) "Address Input", 16 A4 (in) "Address Input", 17 A3 (in) "Address Input", 18 A2 (in) "Address Input", 19 A1 (in) "Address Input", 20 A0 (in) "Address Input", 21 I/O0 (io) "Input/Output", 22 I/O1 (io) "Input/Output", 23 I/O2 (io) "Input/Output", 24 GND (power) "Ground", 25 I/O3 (io) "Input/Output", 26 I/O4 (io) "Input/Output", 27 I/O5 (io) "Input/Output", 28 I/O6 (io) "Input/Output", 29 I/O7 (io) "Input/Output", 30 ~{CS1} (in) "Chip Enable 1 Input", 31 A10 (in) "Address Input", 32 ~{OE} (in) "Output Enable Input"

## IS62WV1288DBLL-45TI-TR
designator U?
1 M Low Voltage, Ultra Low Power CMOS SRAM, 128 K x 8, -40 to 85 degC, 32-Pin SOP (TSOP-1-32); Manufacturer: Integrated Silicon Solution Inc (ISSI); PartNumber: IS62WV1288DBLL-45TI-TR; Density: 1M; Organization: 128K x 8; Packing: Tape & Reel; Speed (ns): 45; DatasheetVersion: Rev. B; PackageVersion: Rev. B, 04/2003; PackageReference: TSOP-1-32; PackageDescription: 32-Pin 8.00 x 13.4 mm TSOP-1, Pitch 0.5 mm; Mounting Technology: Surface Mount; ComponentLink1Description: Manufacturer URL; ComponentLink1URL: http://www.issi.com/US/index.shtml; ComponentLink2Description: Datasheet; ComponentLink2URL: http://www.issi.com/WW/pdf/62-65WV1288DALL-BLL.pdf; ComponentLink3Description: Package Specification; ComponentLink3URL: http://www.issi.com/WW/pdf/61-64C1024AL.pdf
footprint ISSI-TSOP-1-32-8000x13400DE_N (SOP, 32-Leads, Body 11.9x8.1mm, Pitch 0.5mm, IPC Medium Density)
pins: 1 A11 (in) "Address Input", 2 A9 (in) "Address Input", 3 A8 (in) "Address Input", 4 A13 (in) "Address Input", 5 ~{WE} (in) "Write Enable Input", 6 CS2 (in) "Chip Enable 2 Input", 7 A15 (in) "Address Input", 8 VDD (power) "Power", 9 NC "No Connection", 10 A16 (in) "Address Input", 11 A14 (in) "Address Input", 12 A12 (in) "Address Input", 13 A7 (in) "Address Input", 14 A6 (in) "Address Input", 15 A5 (in) "Address Input", 16 A4 (in) "Address Input", 17 A3 (in) "Address Input", 18 A2 (in) "Address Input", 19 A1 (in) "Address Input", 20 A0 (in) "Address Input", 21 I/O0 (io) "Input/Output", 22 I/O1 (io) "Input/Output", 23 I/O2 (io) "Input/Output", 24 GND (power) "Ground", 25 I/O3 (io) "Input/Output", 26 I/O4 (io) "Input/Output", 27 I/O5 (io) "Input/Output", 28 I/O6 (io) "Input/Output", 29 I/O7 (io) "Input/Output", 30 ~{CS1} (in) "Chip Enable 1 Input", 31 A10 (in) "Address Input", 32 ~{OE} (in) "Output Enable Input"

## IS62WV1288DBLL-45TLI
designator U?
1 M Low Voltage, Ultra Low Power CMOS SRAM, 128 K x 8, -40 to 85 degC, 32-Pin SOP (TSOP-1-32), Pb-Free; Manufacturer: Integrated Silicon Solution Inc (ISSI); PartNumber: IS62WV1288DBLL-45TLI; Density: 1M; Organization: 128K x 8; Packing: Tray / Tube; Speed (ns): 45; DatasheetVersion: Rev. B; PackageVersion: Rev. B, 04/2003; PackageReference: TSOP-1-32; PackageDescription: 32-Pin 8.00 x 13.4 mm TSOP-1, Pitch 0.5 mm; Supplier 1: Digi-Key; Supplier Part Number 1: 706-1121-ND; Supplier 2: Mouser; Supplier Part Number 2: 870-62WV1288DB45TLI; RoHS: Pb-Free; Mounting Technology: Surface Mount; ComponentLink1Description: Manufacturer URL; ComponentLink1URL: http://www.issi.com/US/index.shtml; ComponentLink2Description: Datasheet; ComponentLink2URL: http://www.issi.com/WW/pdf/62-65WV1288DALL-BLL.pdf; ComponentLink3Description: Package Specification; ComponentLink3URL: http://www.issi.com/WW/pdf/61-64C1024AL.pdf
footprint ISSI-TSOP-1-32-8000x13400DE_N (SOP, 32-Leads, Body 11.9x8.1mm, Pitch 0.5mm, IPC Medium Density)
pins: 1 A11 (in) "Address Input", 2 A9 (in) "Address Input", 3 A8 (in) "Address Input", 4 A13 (in) "Address Input", 5 ~{WE} (in) "Write Enable Input", 6 CS2 (in) "Chip Enable 2 Input", 7 A15 (in) "Address Input", 8 VDD (power) "Power", 9 NC "No Connection", 10 A16 (in) "Address Input", 11 A14 (in) "Address Input", 12 A12 (in) "Address Input", 13 A7 (in) "Address Input", 14 A6 (in) "Address Input", 15 A5 (in) "Address Input", 16 A4 (in) "Address Input", 17 A3 (in) "Address Input", 18 A2 (in) "Address Input", 19 A1 (in) "Address Input", 20 A0 (in) "Address Input", 21 I/O0 (io) "Input/Output", 22 I/O1 (io) "Input/Output", 23 I/O2 (io) "Input/Output", 24 GND (power) "Ground", 25 I/O3 (io) "Input/Output", 26 I/O4 (io) "Input/Output", 27 I/O5 (io) "Input/Output", 28 I/O6 (io) "Input/Output", 29 I/O7 (io) "Input/Output", 30 ~{CS1} (in) "Chip Enable 1 Input", 31 A10 (in) "Address Input", 32 ~{OE} (in) "Output Enable Input"

## IS62WV1288DBLL-45TLI-TR
designator U?
1 M Low Voltage, Ultra Low Power CMOS SRAM, 128 K x 8, -40 to 85 degC, 32-Pin SOP (TSOP-1-32), Pb-Free; Manufacturer: Integrated Silicon Solution Inc (ISSI); PartNumber: IS62WV1288DBLL-45TLI-TR; Density: 1M; Organization: 128K x 8; Packing: Tape & Reel; Speed (ns): 45; DatasheetVersion: Rev. B; PackageVersion: Rev. B, 04/2003; PackageReference: TSOP-1-32; PackageDescription: 32-Pin 8.00 x 13.4 mm TSOP-1, Pitch 0.5 mm; Supplier 1: Mouser; Supplier Part Number 1: 870-62WV1288DB45TLIT; RoHS: Pb-Free; Mounting Technology: Surface Mount; ComponentLink1Description: Manufacturer URL; ComponentLink1URL: http://www.issi.com/US/index.shtml; ComponentLink2Description: Datasheet; ComponentLink2URL: http://www.issi.com/WW/pdf/62-65WV1288DALL-BLL.pdf; ComponentLink3Description: Package Specification; ComponentLink3URL: http://www.issi.com/WW/pdf/61-64C1024AL.pdf
footprint ISSI-TSOP-1-32-8000x13400DE_N (SOP, 32-Leads, Body 11.9x8.1mm, Pitch 0.5mm, IPC Medium Density)
pins: 1 A11 (in) "Address Input", 2 A9 (in) "Address Input", 3 A8 (in) "Address Input", 4 A13 (in) "Address Input", 5 ~{WE} (in) "Write Enable Input", 6 CS2 (in) "Chip Enable 2 Input", 7 A15 (in) "Address Input", 8 VDD (power) "Power", 9 NC "No Connection", 10 A16 (in) "Address Input", 11 A14 (in) "Address Input", 12 A12 (in) "Address Input", 13 A7 (in) "Address Input", 14 A6 (in) "Address Input", 15 A5 (in) "Address Input", 16 A4 (in) "Address Input", 17 A3 (in) "Address Input", 18 A2 (in) "Address Input", 19 A1 (in) "Address Input", 20 A0 (in) "Address Input", 21 I/O0 (io) "Input/Output", 22 I/O1 (io) "Input/Output", 23 I/O2 (io) "Input/Output", 24 GND (power) "Ground", 25 I/O3 (io) "Input/Output", 26 I/O4 (io) "Input/Output", 27 I/O5 (io) "Input/Output", 28 I/O6 (io) "Input/Output", 29 I/O7 (io) "Input/Output", 30 ~{CS1} (in) "Chip Enable 1 Input", 31 A10 (in) "Address Input", 32 ~{OE} (in) "Output Enable Input"

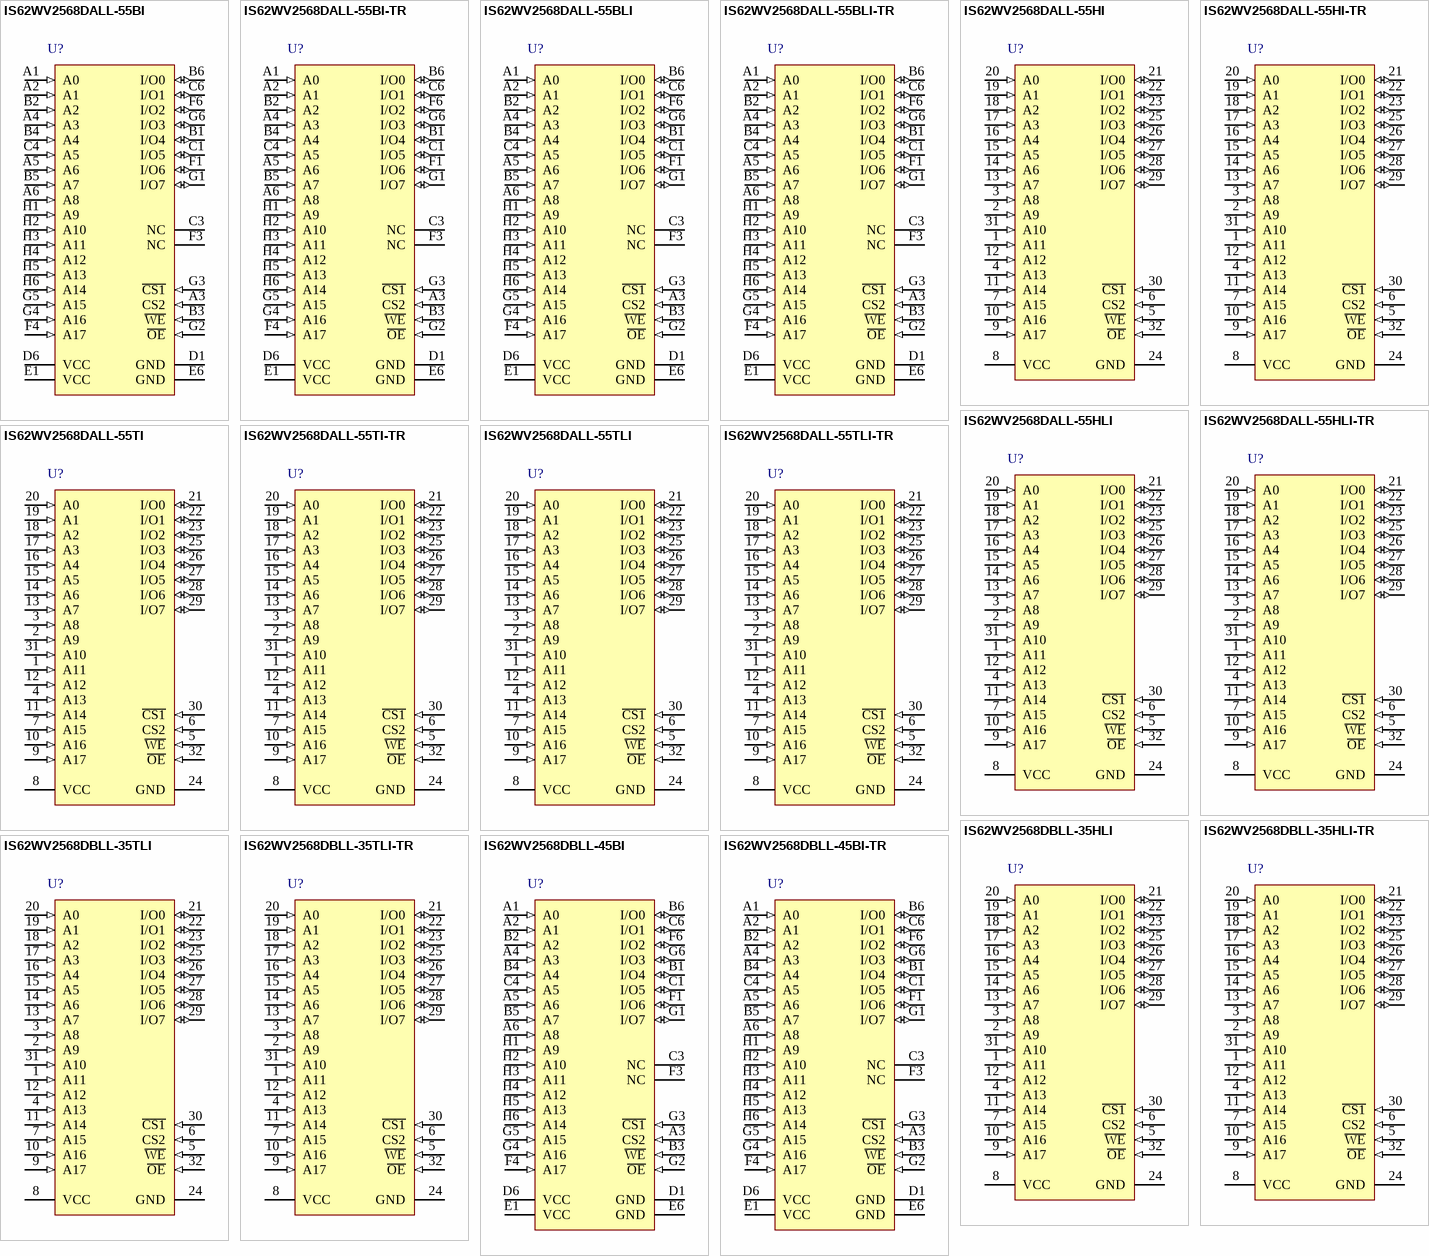
[diagram p2: symbols IS62WV2568DALL-55BI to IS62WV2568DBLL-45BI-TR]

## IS62WV2568DALL-55BI
designator U?
2 M Low Voltage, Ultra Low Power CMOS SRAM, 256 K x 8, -40 to 85 degC, 36-Pin BGA (TF-BGA-36); Manufacturer: Integrated Silicon Solution Inc (ISSI); PartNumber: IS62WV2568DALL-55BI; Density: 2M; Organization: 256K x 8; Packing: Tray / Tube; Speed (ns): 55; DatasheetVersion: Rev. A; PackageVersion: Rev. E, 08/2008; PackageReference: TF-BGA-36; PackageDescription: 36-Pin 6 x 8 mm TF-BGA, Pitch 0.75 mm; Mounting Technology: Surface Mount; Code_JEDEC: MO-207; ComponentLink1Description: Manufacturer URL; ComponentLink1URL: http://www.issi.com/US/index.shtml; ComponentLink2Description: Datasheet; ComponentLink2URL: http://www.issi.com/WW/pdf/62-65WV2568DALL_BLL.pdf; ComponentLink3Description: Package Specification; ComponentLink3URL: http://www.issi.com/WW/pdf/62-65WV2568DALL_BLL.pdf
footprint ISSI-TF-BGA-36-6000x8000DE (BGA, 36-Balls, Body 8x6mm, Pitch 0.75mm)
pins: A1 A0 (in) "Address Input", A2 A1 (in) "Address Input", A3 CS2 (in) "Chip Enable 2 Input", A4 A3 (in) "Address Input", A5 A6 (in) "Address Input", A6 A8 (in) "Address Input", B1 I/O4 (io) "Input/Output", B2 A2 (in) "Address Input", B3 ~{WE} (in) "Write Enable Input", B4 A4 (in) "Address Input", B5 A7 (in) "Address Input", B6 I/O0 (io) "Input/Output", C1 I/O5 (io) "Input/Output", C3 NC "No Connection", C4 A5 (in) "Address Input", C6 I/O1 (io) "Input/Output", D1 GND (power) "Ground", D6 VCC (power) "Power", E1 VCC (power) "Power", E6 GND (power) "Ground", F1 I/O6 (io) "Input/Output", F3 NC "No Connection", F4 A17 (in) "Address Input", F6 I/O2 (io) "Input/Output", G1 I/O7 (io) "Input/Output", G2 ~{OE} (in) "Output Enable Input", G3 ~{CS1} (in) "Chip Enable 1 Input", G4 A16 (in) "Address Input", G5 A15 (in) "Address Input", G6 I/O3 (io) "Input/Output", H1 A9 (in) "Address Input", H2 A10 (in) "Address Input", H3 A11 (in) "Address Input", H4 A12 (in) "Address Input", H5 A13 (in) "Address Input", H6 A14 (in) "Address Input"

## IS62WV2568DALL-55BI-TR
designator U?
2 M Low Voltage, Ultra Low Power CMOS SRAM, 256 K x 8, -40 to 85 degC, 36-Pin BGA (TF-BGA-36); Manufacturer: Integrated Silicon Solution Inc (ISSI); PartNumber: IS62WV2568DALL-55BI-TR; Density: 2M; Organization: 256K x 8; Packing: Tape & Reel; Speed (ns): 55; DatasheetVersion: Rev. A; PackageVersion: Rev. E, 08/2008; PackageReference: TF-BGA-36; PackageDescription: 36-Pin 6 x 8 mm TF-BGA, Pitch 0.75 mm; Mounting Technology: Surface Mount; Code_JEDEC: MO-207; ComponentLink1Description: Manufacturer URL; ComponentLink1URL: http://www.issi.com/US/index.shtml; ComponentLink2Description: Datasheet; ComponentLink2URL: http://www.issi.com/WW/pdf/62-65WV2568DALL_BLL.pdf; ComponentLink3Description: Package Specification; ComponentLink3URL: http://www.issi.com/WW/pdf/62-65WV2568DALL_BLL.pdf
footprint ISSI-TF-BGA-36-6000x8000DE (BGA, 36-Balls, Body 8x6mm, Pitch 0.75mm)
pins: A1 A0 (in) "Address Input", A2 A1 (in) "Address Input", A3 CS2 (in) "Chip Enable 2 Input", A4 A3 (in) "Address Input", A5 A6 (in) "Address Input", A6 A8 (in) "Address Input", B1 I/O4 (io) "Input/Output", B2 A2 (in) "Address Input", B3 ~{WE} (in) "Write Enable Input", B4 A4 (in) "Address Input", B5 A7 (in) "Address Input", B6 I/O0 (io) "Input/Output", C1 I/O5 (io) "Input/Output", C3 NC "No Connection", C4 A5 (in) "Address Input", C6 I/O1 (io) "Input/Output", D1 GND (power) "Ground", D6 VCC (power) "Power", E1 VCC (power) "Power", E6 GND (power) "Ground", F1 I/O6 (io) "Input/Output", F3 NC "No Connection", F4 A17 (in) "Address Input", F6 I/O2 (io) "Input/Output", G1 I/O7 (io) "Input/Output", G2 ~{OE} (in) "Output Enable Input", G3 ~{CS1} (in) "Chip Enable 1 Input", G4 A16 (in) "Address Input", G5 A15 (in) "Address Input", G6 I/O3 (io) "Input/Output", H1 A9 (in) "Address Input", H2 A10 (in) "Address Input", H3 A11 (in) "Address Input", H4 A12 (in) "Address Input", H5 A13 (in) "Address Input", H6 A14 (in) "Address Input"

## IS62WV2568DALL-55BLI
designator U?
2 M Low Voltage, Ultra Low Power CMOS SRAM, 256 K x 8, -40 to 85 degC, 36-Pin BGA (TF-BGA-36), Pb-Free; Manufacturer: Integrated Silicon Solution Inc (ISSI); PartNumber: IS62WV2568DALL-55BLI; Density: 2M; Organization: 256K x 8; Packing: Tray / Tube; Speed (ns): 55; DatasheetVersion: Rev. A; PackageVersion: Rev. E, 08/2008; PackageReference: TF-BGA-36; PackageDescription: 36-Pin 6 x 8 mm TF-BGA, Pitch 0.75 mm; RoHS: Pb-Free; Mounting Technology: Surface Mount; Code_JEDEC: MO-207; ComponentLink1Description: Manufacturer URL; ComponentLink1URL: http://www.issi.com/US/index.shtml; ComponentLink2Description: Datasheet; ComponentLink2URL: http://www.issi.com/WW/pdf/62-65WV2568DALL_BLL.pdf; ComponentLink3Description: Package Specification; ComponentLink3URL: http://www.issi.com/WW/pdf/62-65WV2568DALL_BLL.pdf
footprint ISSI-TF-BGA-36-6000x8000DE (BGA, 36-Balls, Body 8x6mm, Pitch 0.75mm)
pins: A1 A0 (in) "Address Input", A2 A1 (in) "Address Input", A3 CS2 (in) "Chip Enable 2 Input", A4 A3 (in) "Address Input", A5 A6 (in) "Address Input", A6 A8 (in) "Address Input", B1 I/O4 (io) "Input/Output", B2 A2 (in) "Address Input", B3 ~{WE} (in) "Write Enable Input", B4 A4 (in) "Address Input", B5 A7 (in) "Address Input", B6 I/O0 (io) "Input/Output", C1 I/O5 (io) "Input/Output", C3 NC "No Connection", C4 A5 (in) "Address Input", C6 I/O1 (io) "Input/Output", D1 GND (power) "Ground", D6 VCC (power) "Power", E1 VCC (power) "Power", E6 GND (power) "Ground", F1 I/O6 (io) "Input/Output", F3 NC "No Connection", F4 A17 (in) "Address Input", F6 I/O2 (io) "Input/Output", G1 I/O7 (io) "Input/Output", G2 ~{OE} (in) "Output Enable Input", G3 ~{CS1} (in) "Chip Enable 1 Input", G4 A16 (in) "Address Input", G5 A15 (in) "Address Input", G6 I/O3 (io) "Input/Output", H1 A9 (in) "Address Input", H2 A10 (in) "Address Input", H3 A11 (in) "Address Input", H4 A12 (in) "Address Input", H5 A13 (in) "Address Input", H6 A14 (in) "Address Input"

## IS62WV2568DALL-55BLI-TR
designator U?
2 M Low Voltage, Ultra Low Power CMOS SRAM, 256 K x 8, -40 to 85 degC, 36-Pin BGA (TF-BGA-36), Pb-Free; Manufacturer: Integrated Silicon Solution Inc (ISSI); PartNumber: IS62WV2568DALL-55BLI-TR; Density: 2M; Organization: 256K x 8; Packing: Tape & Reel; Speed (ns): 55; DatasheetVersion: Rev. A; PackageVersion: Rev. E, 08/2008; PackageReference: TF-BGA-36; PackageDescription: 36-Pin 6 x 8 mm TF-BGA, Pitch 0.75 mm; RoHS: Pb-Free; Mounting Technology: Surface Mount; Code_JEDEC: MO-207; ComponentLink1Description: Manufacturer URL; ComponentLink1URL: http://www.issi.com/US/index.shtml; ComponentLink2Description: Datasheet; ComponentLink2URL: http://www.issi.com/WW/pdf/62-65WV2568DALL_BLL.pdf; ComponentLink3Description: Package Specification; ComponentLink3URL: http://www.issi.com/WW/pdf/62-65WV2568DALL_BLL.pdf
footprint ISSI-TF-BGA-36-6000x8000DE (BGA, 36-Balls, Body 8x6mm, Pitch 0.75mm)
pins: A1 A0 (in) "Address Input", A2 A1 (in) "Address Input", A3 CS2 (in) "Chip Enable 2 Input", A4 A3 (in) "Address Input", A5 A6 (in) "Address Input", A6 A8 (in) "Address Input", B1 I/O4 (io) "Input/Output", B2 A2 (in) "Address Input", B3 ~{WE} (in) "Write Enable Input", B4 A4 (in) "Address Input", B5 A7 (in) "Address Input", B6 I/O0 (io) "Input/Output", C1 I/O5 (io) "Input/Output", C3 NC "No Connection", C4 A5 (in) "Address Input", C6 I/O1 (io) "Input/Output", D1 GND (power) "Ground", D6 VCC (power) "Power", E1 VCC (power) "Power", E6 GND (power) "Ground", F1 I/O6 (io) "Input/Output", F3 NC "No Connection", F4 A17 (in) "Address Input", F6 I/O2 (io) "Input/Output", G1 I/O7 (io) "Input/Output", G2 ~{OE} (in) "Output Enable Input", G3 ~{CS1} (in) "Chip Enable 1 Input", G4 A16 (in) "Address Input", G5 A15 (in) "Address Input", G6 I/O3 (io) "Input/Output", H1 A9 (in) "Address Input", H2 A10 (in) "Address Input", H3 A11 (in) "Address Input", H4 A12 (in) "Address Input", H5 A13 (in) "Address Input", H6 A14 (in) "Address Input"

## IS62WV2568DALL-55HI
designator U?
2 M Low Voltage, Ultra Low Power CMOS SRAM, 256 K x 8, -40 to 85 degC, 32-Pin SOP (TSOP-1-32); Manufacturer: Integrated Silicon Solution Inc (ISSI); PartNumber: IS62WV2568DALL-55HI; Density: 2M; Organization: 256K x 8; Packing: Tray / Tube; Speed (ns): 55; DatasheetVersion: Rev. A; PackageVersion: Rev. B, 04/2003; PackageReference: TSOP-1-32; PackageDescription: 32-Pin 8.00 x 13.4 mm TSOP-1, Pitch 0.5 mm; Mounting Technology: Surface Mount; ComponentLink1Description: Manufacturer URL; ComponentLink1URL: http://www.issi.com/US/index.shtml; ComponentLink2Description: Datasheet; ComponentLink2URL: http://www.issi.com/WW/pdf/62-65WV2568DALL_BLL.pdf; ComponentLink3Description: Package Specification; ComponentLink3URL: http://www.issi.com/WW/pdf/61-64C1024AL.pdf
footprint ISSI-TSOP-1-32-8000x13400DE_N (SOP, 32-Leads, Body 11.9x8.1mm, Pitch 0.5mm, IPC Medium Density)
pins: 1 A11 (in) "Address Input", 2 A9 (in) "Address Input", 3 A8 (in) "Address Input", 4 A13 (in) "Address Input", 5 ~{WE} (in) "Write Enable Input", 6 CS2 (in) "Chip Enable 2 Input", 7 A15 (in) "Address Input", 8 VCC (power) "Power", 9 A17 (in) "Address Input", 10 A16 (in) "Address Input", 11 A14 (in) "Address Input", 12 A12 (in) "Address Input", 13 A7 (in) "Address Input", 14 A6 (in) "Address Input", 15 A5 (in) "Address Input", 16 A4 (in) "Address Input", 17 A3 (in) "Address Input", 18 A2 (in) "Address Input", 19 A1 (in) "Address Input", 20 A0 (in) "Address Input", 21 I/O0 (io) "Input/Output", 22 I/O1 (io) "Input/Output", 23 I/O2 (io) "Input/Output", 24 GND (power) "Ground", 25 I/O3 (io) "Input/Output", 26 I/O4 (io) "Input/Output", 27 I/O5 (io) "Input/Output", 28 I/O6 (io) "Input/Output", 29 I/O7 (io) "Input/Output", 30 ~{CS1} (in) "Chip Enable 1 Input", 31 A10 (in) "Address Input", 32 ~{OE} (in) "Output Enable Input"

## IS62WV2568DALL-55HI-TR
designator U?
2 M Low Voltage, Ultra Low Power CMOS SRAM, 256 K x 8, -40 to 85 degC, 32-Pin SOP (TSOP-1-32); Manufacturer: Integrated Silicon Solution Inc (ISSI); PartNumber: IS62WV2568DALL-55HI-TR; Density: 2M; Organization: 256K x 8; Packing: Tape & Reel; Speed (ns): 55; DatasheetVersion: Rev. A; PackageVersion: Rev. B, 04/2003; PackageReference: TSOP-1-32; PackageDescription: 32-Pin 8.00 x 13.4 mm TSOP-1, Pitch 0.5 mm; Mounting Technology: Surface Mount; ComponentLink1Description: Manufacturer URL; ComponentLink1URL: http://www.issi.com/US/index.shtml; ComponentLink2Description: Datasheet; ComponentLink2URL: http://www.issi.com/WW/pdf/62-65WV2568DALL_BLL.pdf; ComponentLink3Description: Package Specification; ComponentLink3URL: http://www.issi.com/WW/pdf/61-64C1024AL.pdf
footprint ISSI-TSOP-1-32-8000x13400DE_N (SOP, 32-Leads, Body 11.9x8.1mm, Pitch 0.5mm, IPC Medium Density)
pins: 1 A11 (in) "Address Input", 2 A9 (in) "Address Input", 3 A8 (in) "Address Input", 4 A13 (in) "Address Input", 5 ~{WE} (in) "Write Enable Input", 6 CS2 (in) "Chip Enable 2 Input", 7 A15 (in) "Address Input", 8 VCC (power) "Power", 9 A17 (in) "Address Input", 10 A16 (in) "Address Input", 11 A14 (in) "Address Input", 12 A12 (in) "Address Input", 13 A7 (in) "Address Input", 14 A6 (in) "Address Input", 15 A5 (in) "Address Input", 16 A4 (in) "Address Input", 17 A3 (in) "Address Input", 18 A2 (in) "Address Input", 19 A1 (in) "Address Input", 20 A0 (in) "Address Input", 21 I/O0 (io) "Input/Output", 22 I/O1 (io) "Input/Output", 23 I/O2 (io) "Input/Output", 24 GND (power) "Ground", 25 I/O3 (io) "Input/Output", 26 I/O4 (io) "Input/Output", 27 I/O5 (io) "Input/Output", 28 I/O6 (io) "Input/Output", 29 I/O7 (io) "Input/Output", 30 ~{CS1} (in) "Chip Enable 1 Input", 31 A10 (in) "Address Input", 32 ~{OE} (in) "Output Enable Input"

## IS62WV2568DALL-55HLI
designator U?
2 M Low Voltage, Ultra Low Power CMOS SRAM, 256 K x 8, -40 to 85 degC, 32-Pin SOP (TSOP-1-32), Pb-Free; Manufacturer: Integrated Silicon Solution Inc (ISSI); PartNumber: IS62WV2568DALL-55HLI; Density: 2M; Organization: 256K x 8; Packing: Tray / Tube; Speed (ns): 55; DatasheetVersion: Rev. A; PackageVersion: Rev. B, 04/2003; PackageReference: TSOP-1-32; PackageDescription: 32-Pin 8.00 x 13.4 mm TSOP-1, Pitch 0.5 mm; RoHS: Pb-Free; Mounting Technology: Surface Mount; ComponentLink1Description: Manufacturer URL; ComponentLink1URL: http://www.issi.com/US/index.shtml; ComponentLink2Description: Datasheet; ComponentLink2URL: http://www.issi.com/WW/pdf/62-65WV2568DALL_BLL.pdf; ComponentLink3Description: Package Specification; ComponentLink3URL: http://www.issi.com/WW/pdf/61-64C1024AL.pdf
footprint ISSI-TSOP-1-32-8000x13400DE_N (SOP, 32-Leads, Body 11.9x8.1mm, Pitch 0.5mm, IPC Medium Density)
pins: 1 A11 (in) "Address Input", 2 A9 (in) "Address Input", 3 A8 (in) "Address Input", 4 A13 (in) "Address Input", 5 ~{WE} (in) "Write Enable Input", 6 CS2 (in) "Chip Enable 2 Input", 7 A15 (in) "Address Input", 8 VCC (power) "Power", 9 A17 (in) "Address Input", 10 A16 (in) "Address Input", 11 A14 (in) "Address Input", 12 A12 (in) "Address Input", 13 A7 (in) "Address Input", 14 A6 (in) "Address Input", 15 A5 (in) "Address Input", 16 A4 (in) "Address Input", 17 A3 (in) "Address Input", 18 A2 (in) "Address Input", 19 A1 (in) "Address Input", 20 A0 (in) "Address Input", 21 I/O0 (io) "Input/Output", 22 I/O1 (io) "Input/Output", 23 I/O2 (io) "Input/Output", 24 GND (power) "Ground", 25 I/O3 (io) "Input/Output", 26 I/O4 (io) "Input/Output", 27 I/O5 (io) "Input/Output", 28 I/O6 (io) "Input/Output", 29 I/O7 (io) "Input/Output", 30 ~{CS1} (in) "Chip Enable 1 Input", 31 A10 (in) "Address Input", 32 ~{OE} (in) "Output Enable Input"